# EAGLE library part PCA9306 (library Gucci_ControlBoard)
Voltage Level Translator Bidirectional 1 Circuit 2 Channel SM8 (SSOP) DigiKey <https://www.digikey.com/product-detail/en/texas-instruments/PCA9306DCTR/296-18509-1-ND/809938>
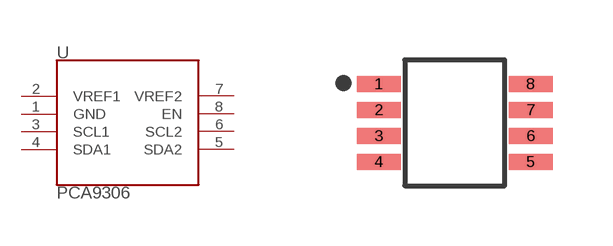
[diagram p2: symbol with the pads of 8-LSSOP; footprint 8-LSSOP]

Designator prefix U

## PCA9306 (DKPN: 296-18509-1-ND)  [8-LSSOP]
1  GND  pas
2  VREF1  pas
3  SCL1  pas
4  SDA1  pas
5  SDA2  pas
6  SCL2  pas
7  VREF2  pas
8  EN  pas

## Footprint 8-LSSOP (pad centres in mm)
Datasheet <https://www.ti.com/general/docs/suppproductinfo.tsp?distId=10&gotoUrl=http%3A%2F%2Fwww.ti.com%2Flit%2Fgpn%2Fpca9306>
smd 1.1 x 0.4: 1 -1.9,0.975; 2 -1.9,0.325; 3 -1.9,-0.325; 4 -1.9,-0.975; 5 1.9,-0.975; 6 1.9,-0.325; 7 1.9,0.325; 8 1.9,0.975